# Altium schematic symbol library SCH - PASSIVES - INDUCTOR 742792651.SCHLIB: 1 symbol
Pins are listed as number, name and electrical type; pins without a type are passive.

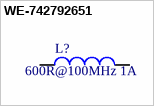
[diagram p0: symbol WE-742792651]

## WE-742792651
designator L?, comment 600R@100MHz 1A
Ferrite SMD 600R@100MHz 1A (0603); Manufacturer: Wuerth-Elektronik; Class I: Pasive; Best.-Nr.: WE-742792651; Class II: Ferrite SMD 600R@100MHz 1A; Last edited: 08.12.2006 12:28
footprint 0603-Ind (SMD 0603 size (Imperial))
pins: 1, 2